# Altium footprint library HGH.PcbLib: 336 footprints (part 2 of 21)
Each footprint in its own frame and in the unit in brackets; x right, y up, seen from the top. Pads: shape width x height; smd on the part's side, far side on the other; paste and mask are expansions set on the pad; w line width, h text height; cw(c..) or ccw(c..) is an arc to the next point about the centre after c.
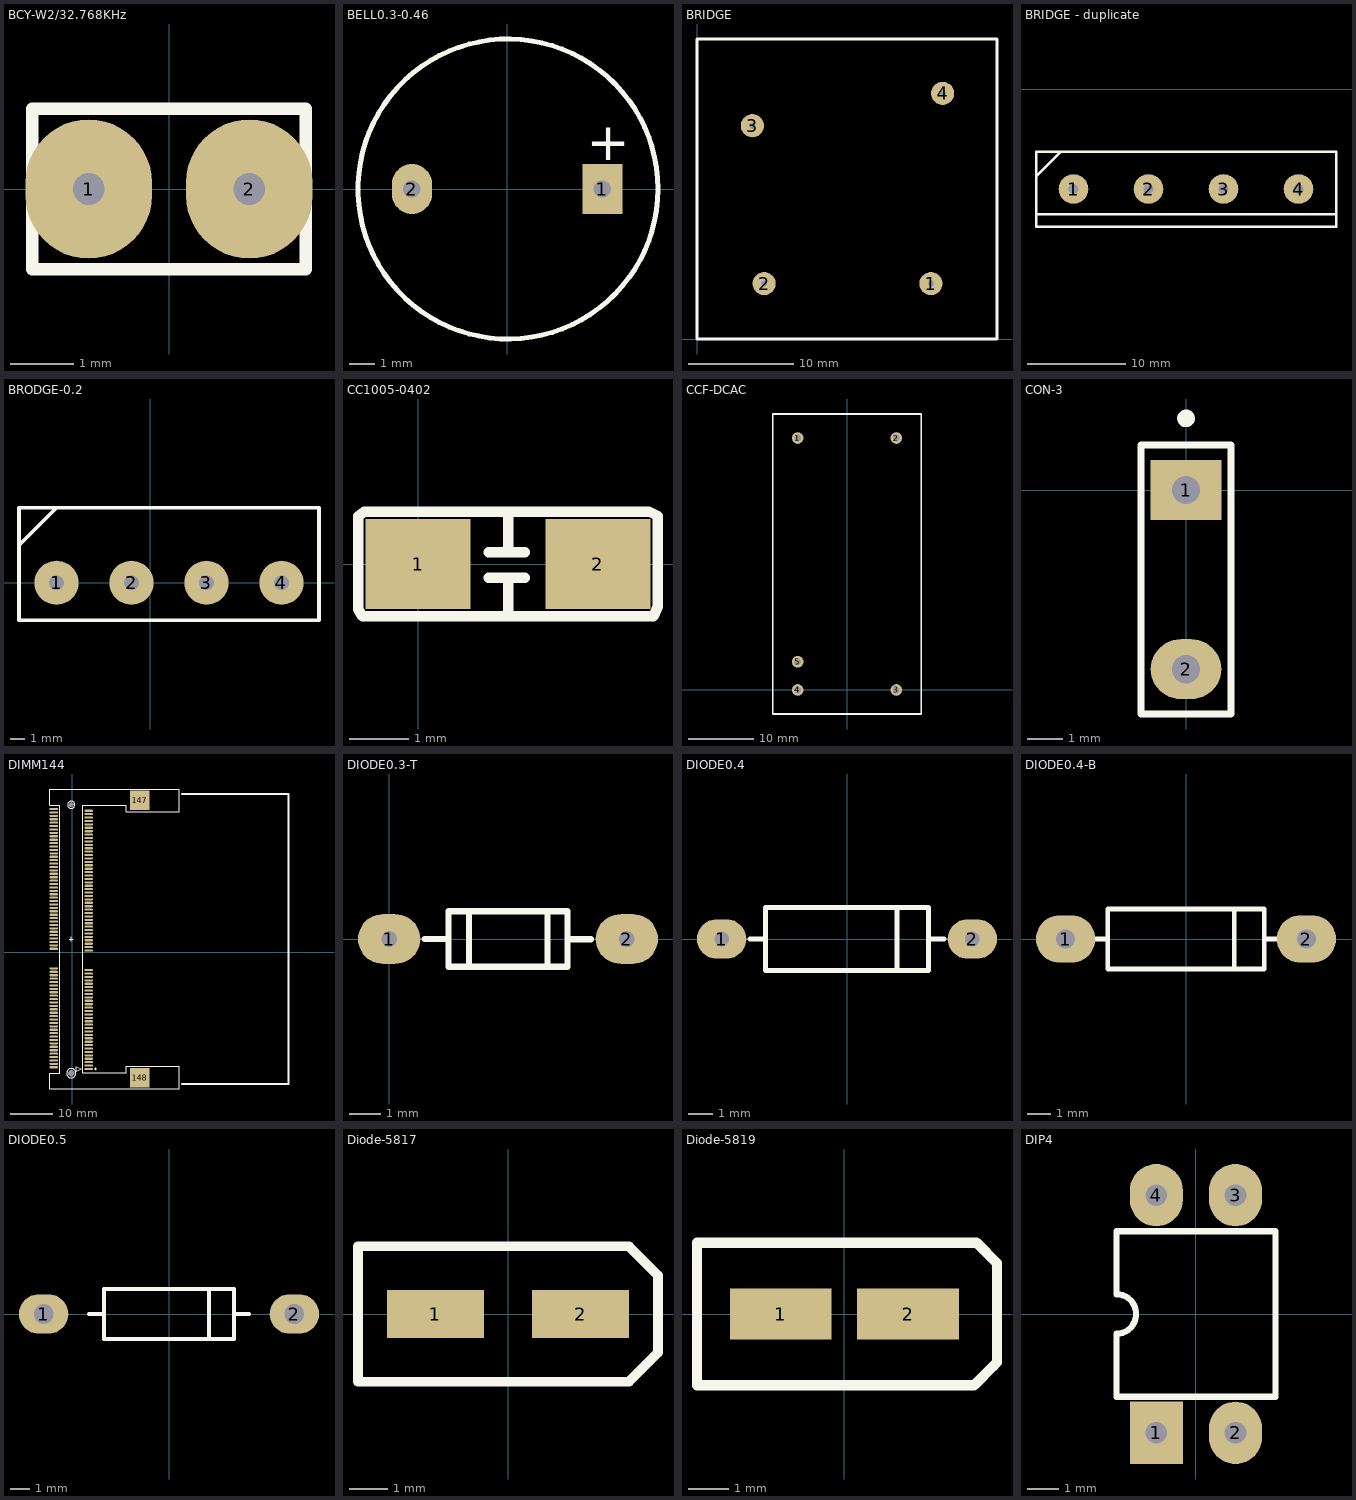
[diagram p1: the footprints below, top view; thin cyan lines are the x and y axes]

## BCY-W2/32.768KHz [mm]
pads (2):
  oval 2x2.2 hole 0.5: 1(-1.27,0) 2(1.27,0)
Top Overlay:
  lines w0.2: -2.159,-1.27 0,-1.27 2.159,-1.27 2.159,1.27 -0.254,1.27 -2.159,1.27 -2.159,-1.27

## BELL0.3-0.46 [mm]
pads (2):
  rect 1.6x2 hole 0.7: 1(3.81,0)
  oval 1.6x2 hole 0.7: 2(-3.81,0)
Top Overlay:
  circle w0.2: c0.031,0 r6
  text "+" at 3.175,1.143 h1.5

## BRIDGE [mm]
pads (4):
  round 2.2 hole 0.6: 1(22.15,5.25) 2(6.35,5.25) 3(5.25,20.193) 4(23.25,23.25)
Top Overlay:
  lines w0.254: 0,0 0,28.4 28.4,28.4 28.4,0 0,0

## BRIDGE - duplicate [mm]
pads (4):
  round 3 hole 1: 1(12.7,-10.16) 2(20.32,-10.16) 3(27.94,-10.16) 4(35.56,-10.16)
Top Overlay:
  lines w0.254: 8.89,-12.7 39.37,-12.7 ; 8.89,-8.89 11.43,-6.35 ; 8.89,-13.97 8.89,-6.35 10.16,-6.35 39.37,-6.35 39.37,-13.97 8.89,-13.97

## BRODGE-0.2 [mm]
pads (4):
  round 3 hole 1: 1(-6.35,0) 2(-1.27,0) 3(3.81,0) 4(8.89,0)
Top Overlay:
  lines w0.254: -8.89,2.54 -6.35,5.08 ; -8.89,-2.54 11.43,-2.54 11.43,5.08 -8.89,5.08 -8.89,-2.54

## CC1005-0402 [mil]
pads (2):
  rect 70x60 smd: 1(0,0) 2(120,0)
Top Overlay:
  lines w7: 47,-9 71,-9 ; 47,8 71,8 ; 60,-34 60,-9 ; 60,8 60,32 ; -40,-30 -40,32 -36,35 154,35 160,32 160,-28 157,-35 -37,-35 -40,-30

## CCF-DCAC [mil]
pads (5):
  round 70 hole 40: 1(-300,1520) 2(295,1520) 3(295,0) 4(-300,0) 5(-300,170)
Top Overlay:
  lines w10: -450,-145 445,-145 445,1665 -450,1665 -450,-145

## CON-3 [mm]
pads (2):
  rect 2x1.7 hole 0.8: 1(0,0)
  oval 2x1.7 hole 0.8: 2(0,-5.08)
Top Overlay:
  circle w0.25: c0,2.03 r0.125
  lines w0.2: -1.27,-6.35 1.27,-6.35 1.27,-0.635 1.27,1.27 -1.27,1.27 -1.27,-6.35

## DIMM144 [mm]
pads (148):
  oval 2x0.5 smd: 1(3.846,-27.448) 2(-4.354,-27.048) 3(3.846,-26.648) 4(-4.354,-26.248) 5(3.846,-25.848) 6(-4.354,-25.448) 7(3.846,-25.048) 8(-4.354,-24.648) 9(3.846,-24.248) 10(-4.354,-23.848) 11(3.846,-23.448) 12(-4.354,-23.048) 13(3.846,-22.648) 14(-4.354,-22.248) 15(3.846,-21.848) 16(-4.354,-21.448) 17(3.846,-21.048) 18(-4.354,-20.648) 19(3.846,-20.248) 20(-4.354,-19.848) 21(3.846,-19.448) 22(-4.354,-19.048) 23(3.846,-18.648) 24(-4.354,-18.248) 25(3.846,-17.848) 26(-4.354,-17.448) 27(3.846,-17.048) 28(-4.354,-16.648) 29(3.846,-16.248) 30(-4.354,-15.848) 31(3.846,-15.448) 32(-4.354,-15.048) 33(3.846,-14.648) 34(-4.354,-14.248) 35(3.846,-13.848) 36(-4.354,-13.448) 37(3.846,-13.048) 38(-4.354,-12.648) 39(3.846,-12.248) 40(-4.354,-11.848) 41(3.846,-11.448) 42(-4.354,-11.048) 43(3.846,-10.648) 44(-4.354,-10.248) 45(3.846,-9.848) 46(-4.354,-9.448) 47(3.846,-9.048) 48(-4.354,-8.648) 49(3.846,-8.248) 50(-4.354,-7.848) 51(3.846,-7.448) 52(-4.354,-7.048) 53(3.846,-6.648) 54(-4.354,-6.248) 55(3.846,-5.848) 56(-4.354,-5.448) 57(3.846,-5.048) 58(-4.354,-4.648) 59(3.846,-4.248) 60(-4.354,-3.848) 61(3.846,0.352) 62(-4.354,0.752) 63(3.846,1.152) 64(-4.354,1.552) 65(3.846,1.952) 66(-4.354,2.352) 67(3.846,2.752) 68(-4.354,3.152) 69(3.846,3.552) 70(-4.354,3.952) 71(3.846,4.352) 72(-4.354,4.752) 73(3.846,5.152) 74(-4.354,5.552) 75(3.846,5.952) 76(-4.354,6.352) 77(3.846,6.752) 78(-4.354,7.152) 79(3.846,7.552) 80(-4.354,7.952) 81(3.846,8.352) 82(-4.354,8.752) 83(3.846,9.152) 84(-4.354,9.552) 85(3.846,9.952) 86(-4.354,10.352) 87(3.846,10.752) 88(-4.354,11.152) 89(3.846,11.552) 90(-4.354,11.952) 91(3.846,12.352) 92(-4.354,12.752) 93(3.846,13.152) 94(-4.354,13.552) 95(3.846,13.952) 96(-4.354,14.352) 97(3.846,14.752) 98(-4.354,15.152) 99(3.846,15.552) 100(-4.354,15.952) 101(3.846,16.352) 102(-4.354,16.752) 103(3.846,17.152) 104(-4.354,17.552) 105(3.846,17.952) 106(-4.354,18.352) 107(3.846,18.752) 108(-4.354,19.152) 109(3.846,19.552) 110(-4.354,19.952) 111(3.846,20.352) 112(-4.354,20.752) 113(3.846,21.152) 114(-4.354,21.552) 115(3.846,21.952) 116(-4.354,22.352) 117(3.846,22.752) 118(-4.354,23.152) 119(3.846,23.552) 120(-4.354,23.952) 121(3.846,24.352) 122(-4.354,24.752) 123(3.846,25.152) 124(-4.354,25.552) 125(3.846,25.952) 126(-4.354,26.352) 127(3.846,26.752) 128(-4.354,27.152) 129(3.846,27.552) 130(-4.354,27.952) 131(3.846,28.352) 132(-4.354,28.752) 133(3.846,29.152) 134(-4.354,29.552) 135(3.846,29.952) 136(-4.354,30.352) 137(3.846,30.752) 138(-4.354,31.152) 139(3.846,31.552) 140(-4.354,31.952) 141(3.846,32.352) 142(-4.354,32.752) 143(3.846,33.152) 144(-4.354,33.552)
  round 1 hole 1.6 unplated mask+0.3: 145(-0.254,-28.448)
  round 1 hole 1.1 unplated mask+0.05: 146(-0.254,34.552)
  rect 4.6x4.5 smd: 147(15.846,35.602) 148(15.846,-29.498)
Top Overlay:
  circle w0.254: c-0.254,-28.448 r1.1
  circle w0.25: c5.446,-27.448 r0.125
  circle w0.254: c-0.254,34.552 r0.85
  lines w0.1: -0.754,3.052 0.246,3.052 ; -0.254,2.552 -0.254,3.552
  lines w0.2: -5.254,-32.148 -5.254,-28.448 -2.954,-28.448 -2.954,34.452 -5.254,34.452 -5.254,38.252 25.146,38.252 25.146,32.952 12.646,32.952 12.646,34.452 2.446,34.452 2.446,-28.348 12.646,-28.348 12.646,-26.848 25.146,-26.848 25.146,-32.148 -5.254,-32.148 ; 0.946,-27.948 2.046,-27.448 0.946,-26.948 0.946,-27.948
  lines w0.5: 25.746,-30.948 50.746,-30.948 50.746,37.052 25.746,37.052

## DIODE0.3-T [mm]
pads (2):
  oval 2x1.6 hole 0.5: 1(0,0) 2(7.62,0)
Top Overlay:
  lines w0.2: 1.143,0 1.778,0 ; 2.558,-0.879 2.558,0.899 ; 5.08,-0.889 5.08,0.889 ; 5.79,-0.01 6.47,-0.01 ; 1.905,-0.889 1.905,0.889 5.715,0.889 5.715,-0.889 1.905,-0.889

## DIODE0.4 [mm]
pads (2):
  oval 2x1.6 hole 0.6: 1(-5.08,0) 2(5.08,0)
Top Overlay:
  lines w0.2: -3.937,0 -3.302,0 ; 2.032,-1.27 2.032,1.27 ; 3.302,0 3.937,0 ; -3.302,-1.27 3.302,-1.27 3.302,1.27 -3.302,1.27 -3.302,-1.27

## DIODE0.4-B [mm]
pads (2):
  oval 2.5x2 hole 0.8: 1(-5.08,0) 2(5.08,0)
Top Overlay:
  lines w0.2: -3.937,0 -3.302,0 ; 2.032,-1.27 2.032,1.27 ; 3.302,0 3.937,0 ; -3.302,-1.27 -3.302,1.27 3.302,1.27 3.302,-1.27 -3.302,-1.27

## DIODE0.5 [mm]
pads (2):
  oval 2.5x2 hole 1: 1(-6.35,0) 2(6.35,0)
Top Overlay:
  lines w0.2: -4.064,0 -3.302,0 ; 2.032,-1.27 2.032,1.27 ; 3.302,0 4.064,0 ; -3.302,-1.27 3.302,-1.27 3.302,1.27 -3.302,1.27 -3.302,-1.27

## Diode-5817 [mm]
pads (2):
  rect 2.54x1.27 smd: 1(-1.905,0) 2(1.905,0)
Top Overlay:
  lines w0.254: -3.937,-1.778 3.175,-1.778 3.937,-1.016 3.937,1.016 3.175,1.778 -3.937,1.778 -3.937,-1.778

## Diode-5819 [mil]
pads (2):
  rect 100x50 smd: 1(-62.5,0) 2(62.5,0)
Top Overlay:
  lines w10: 145.3,-52.2 150,-47.5 150,50 130,70 127.5,70 -145,70 -145,-70 127.5,-70 147.5,-50

## DIP4 [mm]
pads (4):
  rect 1.7x2 hole 0.7: 1(-1.27,-3.81)
  oval 1.7x2 hole 0.7: 2(1.27,-3.81) 3(1.27,3.81) 4(-1.27,3.81)
Top Overlay:
  lines w0.2: -2.55,-2.65 2.55,-2.65 2.55,2.65 -2.55,2.65 -2.55,0.635 cw(c-2.55,0) -2.55,-0.635 -2.55,-2.65